# Altium footprint library inductor-nkl.PCBLIB: 59 footprints (part 2 of 4)
Each footprint in its own frame and in the unit in brackets; x right, y up, seen from the top. Pads: shape width x height; smd on the part's side, far side on the other; paste and mask are expansions set on the pad; w line width, h text height; cw(c..) or ccw(c..) is an arc to the next point about the centre after c.
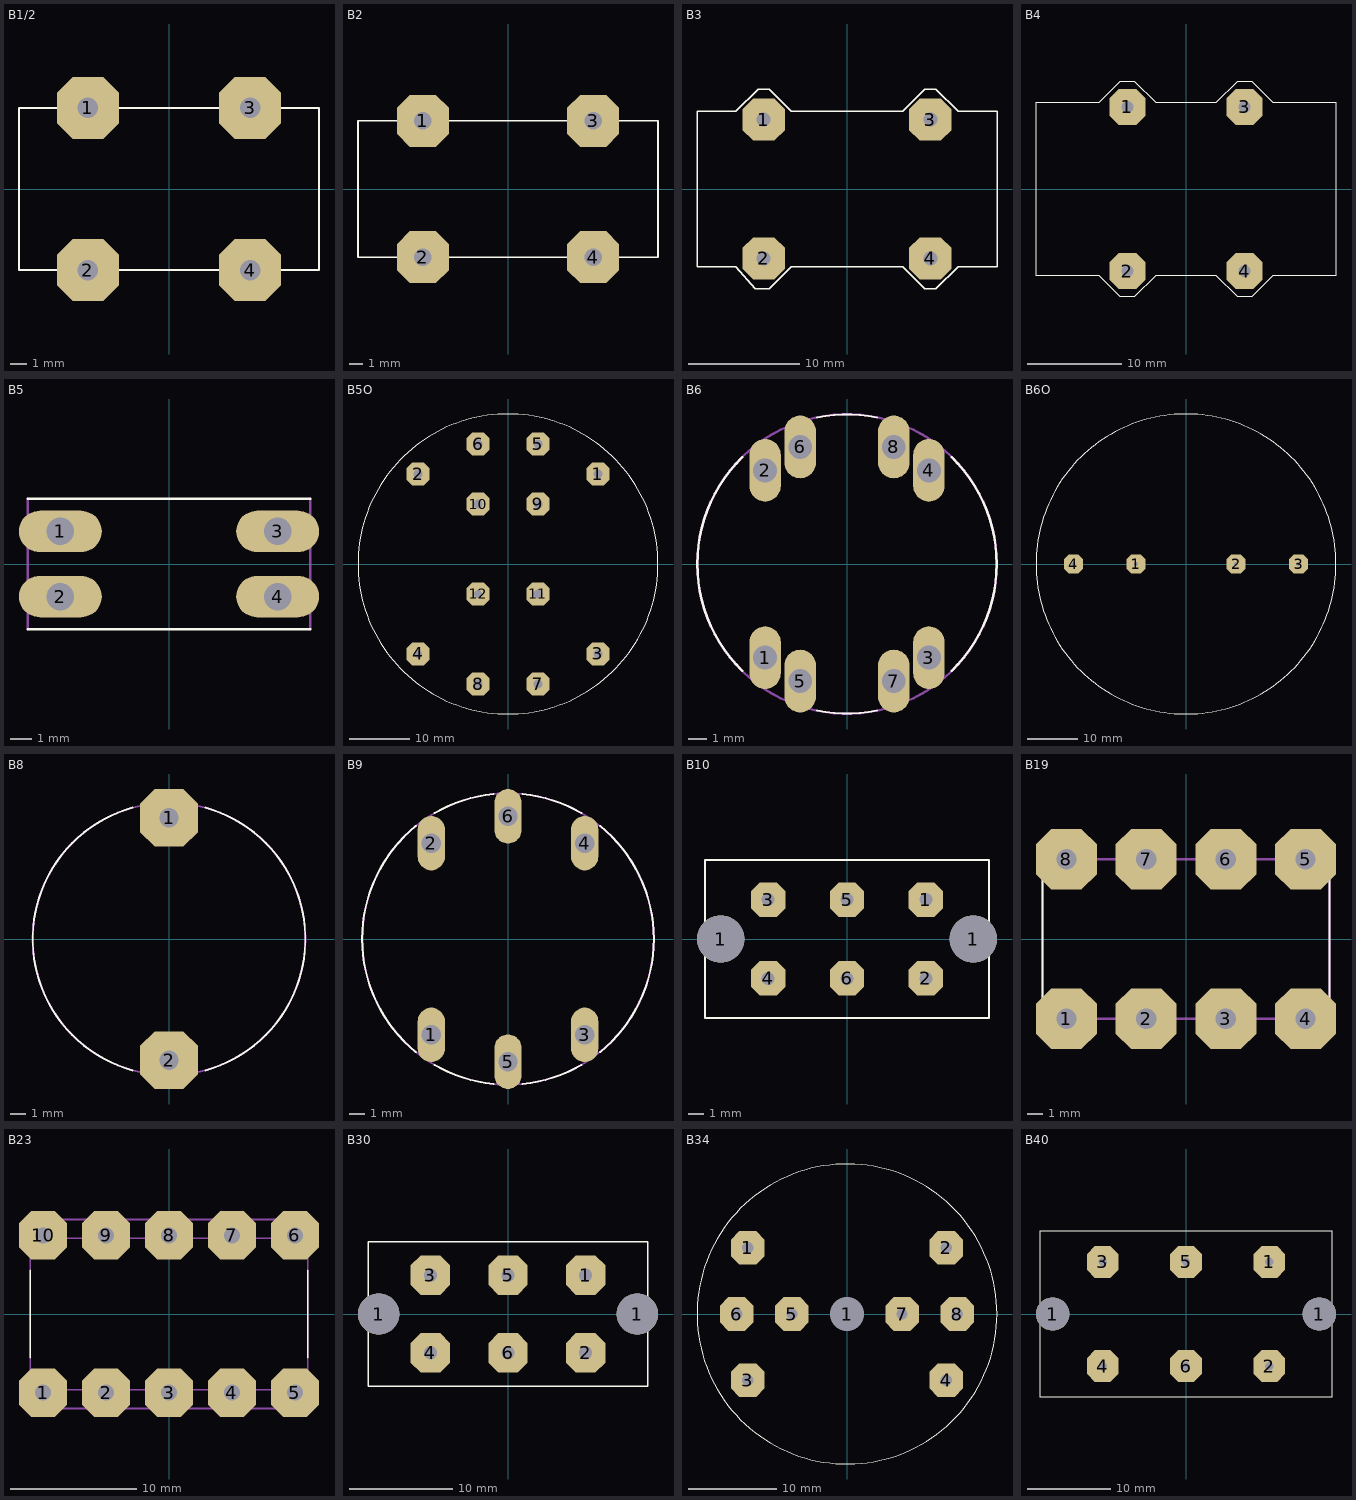
[diagram p1: the footprints below, top view; thin cyan lines are the x and y axes]

## B1/2 [mm]
pads (4):
  oct 3.81x3.81 hole 1.27: 1(-5,5) 2(-5,-5) 3(5,5) 4(5,-5)
Top Overlay:
  lines w0.127: -6.75,-5 -9.25,-5 -9.25,5 -6.75,5 ; -3.25,-5 3.25,-5 ; -3.25,5 3.25,5 ; 6.75,-5 9.25,-5 9.25,5 6.75,5
Mechanical 16:
  lines w0.127: -6.75,-5 -6,-6.25 -4,-6.25 -3.25,-5 ; -6.75,5 -6,6.25 -4,6.25 -3.25,5 ; 3.25,-5 4,-6.25 6,-6.25 6.75,-5 ; 3.25,5 4,6.25 6,6.25 6.75,5

## B2 [mm]
pads (4):
  oct 3.81x3.81 hole 1.27: 1(-6.25,5) 2(-6.25,-5) 3(6.25,5) 4(6.25,-5)
Top Overlay:
  lines w0.127: -8,-5 -11,-5 -11,5 -8,5 ; -4.5,-5 4.5,-5 ; -4.5,5 4.5,5 ; 8,-5 11,-5 11,5 8,5
Mechanical 16:
  lines w0.127: -8,-5 -7,-6.25 -5.5,-6.25 -4.5,-5 ; -8,5 -7,6.25 -5.5,6.25 -4.5,5 ; 4.5,-5 5.5,-6.25 7,-6.25 8,-5 ; 4.5,5 5.5,6.25 7,6.25 8,5

## B3 [mil]
pads (4):
  oct 150x150 hole 50: 1(-295.28,246.06) 2(-295.28,-246.06) 3(295.28,246.06) 4(295.28,-246.06)
Top Overlay:
  lines w5: -531.5,-275.59 -393.7,-275.59 -324.8,-354.33 -275.59,-354.33 -196.85,-275.59 196.85,-275.59 275.59,-354.33 314.96,-354.33 393.7,-275.59 531.5,-275.59 531.5,275.59 393.7,275.59 314.96,354.33 275.59,354.33 196.85,275.59 -196.85,275.59 -275.59,354.33 -314.96,354.33 -393.7,275.59 -531.5,275.59 -531.5,-275.59

## B4 [mil]
pads (4):
  oct 150x150 hole 50: 1(-246.06,344.49) 2(-246.06,-344.49) 3(246.06,344.49) 4(246.06,-344.49)
Top Overlay:
  lines w5: -629.92,-364.17 -364.17,-364.17 -275.59,-452.76 -216.54,-452.76 -127.95,-364.17 127.95,-364.17 216.54,-452.76 275.59,-452.76 364.17,-364.17 629.92,-364.17 629.92,364.17 364.17,364.17 275.59,452.76 216.54,452.76 127.95,364.17 -127.95,364.17 -216.54,452.76 -275.59,452.76 -364.17,364.17 -629.92,364.17 -629.92,-364.17

## B5 [mm]
pads (4):
  oval 3.81x1.905 hole 1.27: 1(-5,1.5) 2(-5,-1.5) 3(5,1.5) 4(5,-1.5)
Top Overlay:
  lines w0.127: -6.5,-3 6.5,-3 ; -6.5,3 6.5,3
Mechanical 16:
  lines w0.127: -6.5,-3 -6.5,3 ; 6.5,-3 6.5,3

## B5O [mil]
pads (12):
  oct 150x150 hole 56: 1(590.55,590.55) 2(-590.55,590.55) 3(590.55,-590.55) 5(196.85,787.4) 6(-196.85,787.4) 7(196.85,-787.4) 8(-196.85,-787.4) 9(196.85,393.7) 10(-196.85,393.7) 11(196.85,-196.85)
  oct 150x150 hole 50: 4(-590.55,-590.55) 12(-196.85,-196.85)
Top Overlay:
  circle w5: c0,0 r984.25

## B6 [mil]
pads (8):
  oval 66x132 hole 50: 1(-172.24,-196.85) 2(-172.24,196.85) 3(172.24,-196.85) 4(172.24,196.85) 5(-98.43,-246.06) 6(-98.43,246.06) 7(98.43,-246.06) 8(98.43,246.06)
Top Overlay:
  lines w5: -220.47,-224.41 cw(c0,0) -220.47,224.41 ; -62.99,-308.07 ccw(c0,0.48) 62.99,-308.07 ; -62.99,308.07 cw(c0,-0.48) 62.99,308.07 ; 220.47,-224.41 ccw(c0,0) 220.47,224.41
Mechanical 16:
  circle w5: c0,0 r314.96

## B6O [mil]
pads (4):
  oct 150x150 hole 32: 1(-393.7,0) 2(393.7,0) 3(885.83,0) 4(-885.83,0)
Top Overlay:
  circle w5: c0,0 r1181.1

## B8 [mm]
pads (2):
  oct 3.81x3.81 hole 1.27: 1(0,8) 2(0,-8)
Top Overlay:
  lines w0.127: -2.4,-8.675 cw(c0.001,0) -2.4,8.675 ; 2.4,-8.675 ccw(c-0.001,0) 2.4,8.675
Mechanical 16:
  circle w0.127: c0,0 r9

## B9 [mil]
pads (6):
  oval 70x140 hole 50: 1(-196.85,-246.06) 2(-196.85,246.06) 3(196.85,-246.06) 4(196.85,246.06) 5(0,-314.96) 6(0,314.96)
Top Overlay:
  lines w5: -236.22,-290.35 cw(c0,0) -236.22,290.35 ; -188.98,-322.83 ccw(c-0.37,0.01) -37.4,-372.05 ; -188.98,322.83 cw(c-0.37,-0.02) -37.4,372.05 ; 37.4,-372.05 ccw(c0.37,0.02) 188.98,-322.83 ; 37.4,372.05 cw(c0.37,-0.02) 188.98,322.83 ; 236.22,-290.35 ccw(c0,0) 236.22,290.35
Mechanical 16:
  circle w5: c0,0 r374.02

## B10 [mil]
pads (8):
  round 118.11 hole 118.11: 1(-314.96,0) 1(314.96,0)
  oct 86x86 hole 32: 1(196.85,98.43) 2(196.85,-98.43) 3(-196.85,98.43) 4(-196.85,-98.43) 5(0,98.43) 6(0,-98.43)
Top Overlay:
  lines w5: -354.33,-196.85 354.33,-196.85 354.33,196.85 -354.33,196.85 -354.33,-196.85

## B19 [mm]
pads (8):
  oct 3.81x3.81 hole 1.27: 1(-7.5,-5) 2(-2.5,-5) 3(2.5,-5) 4(7.5,-5) 5(7.5,5) 6(2.5,5) 7(-2.5,5) 8(-7.5,5)
Top Overlay:
  lines w0.127: -9,-3.73 -9,3.73 ; 9,-3.73 9,3.73
Mechanical 16:
  lines w0.127: -6,-5 cw(c-7.5,-5) -9,-5 ; -6,5 ccw(c-7.5,5) -9,5 ; -4,-5 ccw(c-2.5,-5) -1,-5 ; -4,5 cw(c-2.5,5) -1,5 ; 1,-5 ccw(c2.5,-5) 4,-5 ; 1,5 cw(c2.5,5) 4,5 ; 6,-5 ccw(c7.5,-5) 9,-5 ; 6,5 cw(c7.5,5) 9,5 ; -9,-5 9,-5 ; -9,-5 -9,5 ; -9,5 9,5 ; 9,-5 9,5

## B23 [mm]
pads (10):
  oct 3.81x3.81 hole 1.27: 1(-10,-6.25) 2(-5,-6.25) 3(0,-6.25) 4(5,-6.25) 5(10,-6.25) 6(10,6.25) 7(5,6.25) 8(0,6.25) 9(-5,6.25) 10(-10,6.25)
Top Overlay:
  lines w0.127: -11,-3.46 -11,3.46 ; 11,-3.46 11,3.46
Mechanical 16:
  lines w0.127: -11,-5 ccw(c-9.95,-6) -8.5,-6 ; -11,5 cw(c-9.95,6) -8.5,6 ; -10,-7.5 10,-7.5 ; -10,7.5 10,7.5 ; -6.5,-6 ccw(c-5,-6) -3.5,-6 ; -6.5,6 cw(c-5,6) -3.5,6 ; -1.5,-6 ccw(c0,-6) 1.5,-6 ; -1.5,6 cw(c0,6) 1.5,6 ; 3.5,-6 ccw(c5,-6) 6.5,-6 ; 3.5,6 cw(c5,6) 6.5,6 ; 8.5,-6 ccw(c9.95,-6) 11,-5 ; 8.5,6 cw(c9.95,6) 11,5 ; -11,-6 11,-6 11,6 -11,6 -11,-6

## B30 [mm]
pads (8):
  round 4 hole 4: 1(-12.5,0) 1(12.5,0)
  oct 3.81x3.81 hole 1.27: 1(7.5,3.75) 2(7.5,-3.75) 3(-7.5,3.75) 4(-7.5,-3.75) 5(0,3.75) 6(0,-3.75)
Top Overlay:
  lines w0.127: -13.5,-7 13.5,-7 13.5,7 -13.5,7 -13.5,-7

## B34 [mil]
pads (9):
  oct 150x150 hole 50: 1(-442.91,295.28) 2(442.91,295.28) 3(-442.91,-295.28) 4(442.91,-295.28) 5(-246.06,0) 6(-492.13,0) 7(246.06,0) 8(492.13,0)
  round 150 hole 150: 1(0,0)
Top Overlay:
  circle w5: c0,0 r669.29

## B40 [mil]
pads (8):
  round 157.48 hole 157.48: 1(-629.92,0) 1(629.92,0)
  oct 150x150 hole 40: 1(393.7,246.06) 2(393.7,-246.06) 3(-393.7,246.06) 4(-393.7,-246.06) 5(0,246.06) 6(0,-246.06)
Top Overlay:
  lines w5: -688.98,-393.7 688.98,-393.7 688.98,393.7 -688.98,393.7 -688.98,-393.7